# Altium schematic symbol library SCH - FET - N-CH - INFINEON PG-TO252-3-11.Schlib: 1 symbol
Pins are listed as number, name and electrical type; pins without a type are passive.

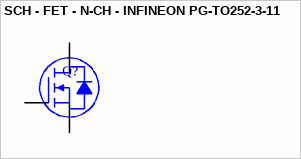
[diagram p0: symbol SCH - FET - N-CH - INFINEON PG-TO252-3-11]

## SCH - FET - N-CH - INFINEON PG-TO252-3-11
designator Q?
footprint INF-PG-TO252-3-11_N (DPAK, 3-Leads, Body 6.5x6.12mm, Pitch 2.28mm, IPC Medium Density)
footprint INF-PG-TO252-3-11_L (DPAK, 3-Leads, Body 6.5x6.12mm, Pitch 2.28mm, IPC High Density)
footprint INF-PG-TO252-3-11_M (DPAK, 3-Leads, Body 6.5x6.12mm, Pitch 2.28mm, IPC Low Density)
pins: 1 G, 2 D, 3 S